# EAGLE library part HV5622 (library Oles komponentbibliotek)
High-voltage 32-channel serial to parallel converter with open drain outputs
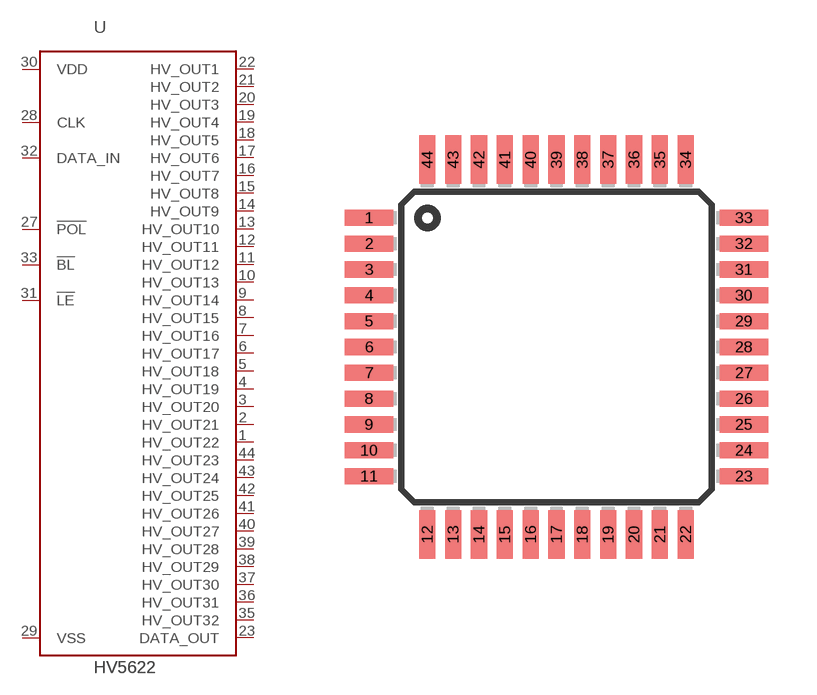
[diagram p63: symbol with the pads of TQFP44; footprint TQFP44]

Designator prefix U

## HV5622  [TQFP44]
1  HV_OUT22  out
2  HV_OUT21  out
3  HV_OUT20  out
4  HV_OUT19  out
5  HV_OUT18  out
6  HV_OUT17  out
7  HV_OUT16  out
8  HV_OUT15  out
9  HV_OUT14  out
10  HV_OUT13  out
11  HV_OUT12  out
12  HV_OUT11  out
13  HV_OUT10  out
14  HV_OUT9  out
15  HV_OUT8  out
16  HV_OUT7  out
17  HV_OUT6  out
18  HV_OUT5  out
19  HV_OUT4  out
20  HV_OUT3  out
21  HV_OUT2  out
22  HV_OUT1  out
23  DATA_OUT  out
27  !POL  in
28  CLK  in
29  VSS  pwr
30  VDD  pwr
31  !LE  in
32  DATA_IN  in
33  !BL  in
35  HV_OUT32  out
36  HV_OUT31  out
37  HV_OUT30  out
38  HV_OUT29  out
39  HV_OUT28  out
40  HV_OUT27  out
41  HV_OUT26  out
42  HV_OUT25  out
43  HV_OUT24  out
44  HV_OUT23  out

## Footprint TQFP44 (pad centres in mm)
smd 1.5 x 0.5: 1 -5.8,4; 2 -5.8,3.2; 3 -5.8,2.4; 4 -5.8,1.6; 5 -5.8,0.8; 6 -5.8,0; 7 -5.8,-0.8; 8 -5.8,-1.6; 9 -5.8,-2.4; 10 -5.8,-3.2; 11 -5.8,-4; 23 5.8,-4; 24 5.8,-3.2; 25 5.8,-2.4; 26 5.8,-1.6; 27 5.8,-0.8; 28 5.8,0; 29 5.8,0.8; 30 5.8,1.6; 31 5.8,2.4; 32 5.8,3.2; 33 5.8,4
smd 0.5 x 1.5: 12 -4,-5.8; 13 -3.2,-5.8; 14 -2.4,-5.8; 15 -1.6,-5.8; 16 -0.8,-5.8; 17 0,-5.8; 18 0.8,-5.8; 19 1.6,-5.8; 20 2.4,-5.8; 21 3.2,-5.8; 22 4,-5.8; 34 4,5.8; 35 3.2,5.8; 36 2.4,5.8; 37 1.6,5.8; 38 0.8,5.8; 39 0,5.8; 40 -0.8,5.8; 41 -1.6,5.8; 42 -2.4,5.8; 43 -3.2,5.8; 44 -4,5.8